# Altium integrated library Actel Fusion.IntLib: 336 symbols (part 66 of 69)
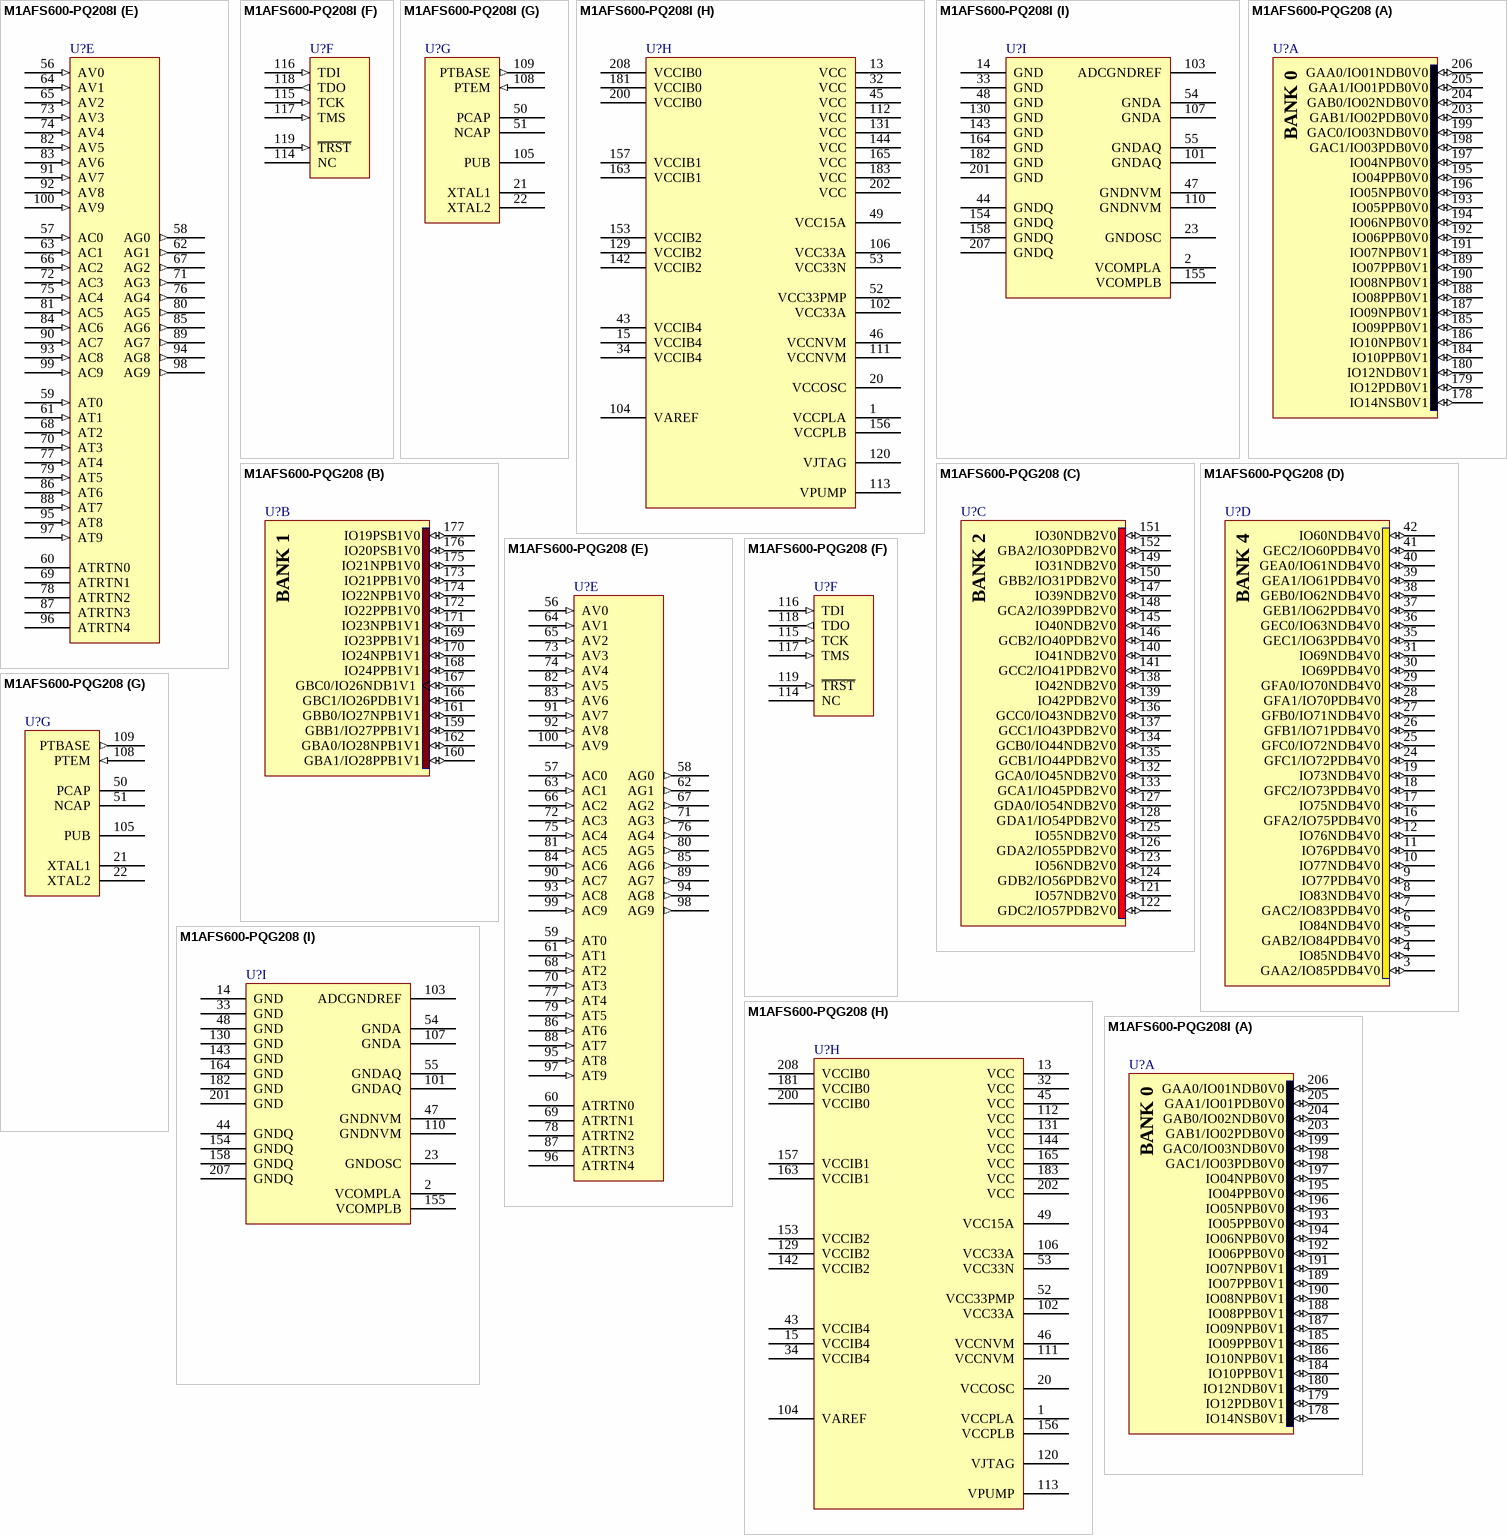
[diagram p337: symbols M1AFS600-PQ208I to M1AFS600-PQG208I]

## M1AFS600-PQ208I
designator U?
ARM-Enabled 3.3V Fusion Mixed Signal Flash FPGA, 600,000 System Gates, 208-Pin PQFP, Industrial Grade; DatasheetVersion: v2.0, Jul-2008; PackageVersion: ver11.2, Nov-2009; PackageReference: PQ208; PackageDescription: 208-Pin Plastic Quad Flat Pack (PQ208); Code_JEDEC: MS-029-FA-1; ComponentLink1Description: Manufacturer URL; ComponentLink1URL: http://www.actel.com/; ComponentLink2Description: Fusion Datasheet; ComponentLink2URL: http://www.actel.com/documents/Fusion_DS.pdf; ComponentLink3Description: Package Mechanical Drawings; ComponentLink3URL: http://www.actel.com/documents/PckgMechDrwngs.pdf; ComponentLink4Description: Fusion Documents; ComponentLink4URL: http://www.actel.com/products/fusion/docs.aspx
footprint PQ208_N (Shrink QFP, 208-Leads, Body 28x28mm, Pitch 0.5mm, IPC Medium Density)
footprint PQ208_L (Shrink QFP, 208-Leads, Body 28x28mm, Pitch 0.5mm, IPC High Density)
footprint PQ208_M (Shrink QFP, 208-Leads, Body 28x28mm, Pitch 0.5mm, IPC Low Density)
part A pins: 178 IO14NSB0V1 (io), 179 IO12PDB0V1 (io), 180 IO12NDB0V1 (io), 184 IO10PPB0V1 (io), 185 IO09PPB0V1 (io), 186 IO10NPB0V1 (io), 187 IO09NPB0V1 (io), 188 IO08PPB0V1 (io), 189 IO07PPB0V1 (io), 190 IO08NPB0V1 (io), 191 IO07NPB0V1 (io), 192 IO06PPB0V0 (io), 193 IO05PPB0V0 (io), 194 IO06NPB0V0 (io), 195 IO04PPB0V0 (io), 196 IO05NPB0V0 (io), 197 IO04NPB0V0 (io), 198 GAC1/IO03PDB0V0 (io), 199 GAC0/IO03NDB0V0 (io), 203 GAB1/IO02PDB0V0 (io), 204 GAB0/IO02NDB0V0 (io), 205 GAA1/IO01PDB0V0 (io), 206 GAA0/IO01NDB0V0 (io)
part B pins: 159 GBB1/IO27PPB1V1 (io), 160 GBA1/IO28PPB1V1 (io), 161 GBB0/IO27NPB1V1 (io), 162 GBA0/IO28NPB1V1 (io), 166 GBC1/IO26PDB1V1 (io), 167 GBC0/IO26NDB1V1 (io), 168 IO24PPB1V1 (io), 169 IO23PPB1V1 (io), 170 IO24NPB1V1 (io), 171 IO23NPB1V1 (io), 172 IO22PPB1V0 (io), 173 IO21PPB1V0 (io), 174 IO22NPB1V0 (io), 175 IO21NPB1V0 (io), 176 IO20PSB1V0 (io), 177 IO19PSB1V0 (io)
part C pins: 121 IO57NDB2V0 (io), 122 GDC2/IO57PDB2V0 (io), 123 IO56NDB2V0 (io), 124 GDB2/IO56PDB2V0 (io), 125 IO55NDB2V0 (io), 126 GDA2/IO55PDB2V0 (io), 127 GDA0/IO54NDB2V0 (io), 128 GDA1/IO54PDB2V0 (io), 132 GCA0/IO45NDB2V0 (io), 133 GCA1/IO45PDB2V0 (io), 134 GCB0/IO44NDB2V0 (io), 135 GCB1/IO44PDB2V0 (io), 136 GCC0/IO43NDB2V0 (io), 137 GCC1/IO43PDB2V0 (io), 138 IO42NDB2V0 (io), 139 IO42PDB2V0 (io), 140 IO41NDB2V0 (io), 141 GCC2/IO41PDB2V0 (io), 145 IO40NDB2V0 (io), 146 GCB2/IO40PDB2V0 (io), 147 IO39NDB2V0 (io), 148 GCA2/IO39PDB2V0 (io), 149 IO31NDB2V0 (io), 150 GBB2/IO31PDB2V0 (io), 151 IO30NDB2V0 (io), 152 GBA2/IO30PDB2V0 (io)
part D pins: 3 GAA2/IO85PDB4V0 (io), 4 IO85NDB4V0 (io), 5 GAB2/IO84PDB4V0 (io), 6 IO84NDB4V0 (io), 7 GAC2/IO83PDB4V0 (io), 8 IO83NDB4V0 (io), 9 IO77PDB4V0 (io), 10 IO77NDB4V0 (io), 11 IO76PDB4V0 (io), 12 IO76NDB4V0 (io), 16 GFA2/IO75PDB4V0 (io), 17 IO75NDB4V0 (io), 18 GFC2/IO73PDB4V0 (io), 19 IO73NDB4V0 (io), 24 GFC1/IO72PDB4V0 (io), 25 GFC0/IO72NDB4V0 (io), 26 GFB1/IO71PDB4V0 (io), 27 GFB0/IO71NDB4V0 (io), 28 GFA1/IO70PDB4V0 (io), 29 GFA0/IO70NDB4V0 (io), 30 IO69PDB4V0 (io), 31 IO69NDB4V0 (io), 35 GEC1/IO63PDB4V0 (io), 36 GEC0/IO63NDB4V0 (io), 37 GEB1/IO62PDB4V0 (io), 38 GEB0/IO62NDB4V0 (io), 39 GEA1/IO61PDB4V0 (io), 40 GEA0/IO61NDB4V0 (io), 41 GEC2/IO60PDB4V0 (io), 42 IO60NDB4V0 (io)
part E pins: 56 AV0 (in) "Analog voltage pad 0.", 57 AC0 (in) "Analog current pad 0.", 58 AG0 (out) "Analog gate driver pad 0.", 59 AT0 (in) "Analog temperature pad 0.", 60 ATRTN0 "Temperature monitor return 0.", 61 AT1 (in) "Analog temperature pad 1.", 62 AG1 (out) "Analog gate driver pad 1.", 63 AC1 (in) "Analog current pad 1.", 64 AV1 (in) "Analog voltage pad 1.", 65 AV2 (in) "Analog voltage pad 2.", 66 AC2 (in) "Analog current pad 2.", 67 AG2 (out) "Analog gate driver pad 2.", 68 AT2 (in) "Analog temperature pad 2.", 69 ATRTN1 "Temperature monitor return 1.", 70 AT3 (in) "Analog temperature pad 3.", 71 AG3 (out) "Analog gate driver pad 3.", 72 AC3 (in) "Analog current pad 3.", 73 AV3 (in) "Analog voltage pad 3.", 74 AV4 (in) "Analog voltage pad 4.", 75 AC4 (in) "Analog current pad 4.", 76 AG4 (out) "Analog gate driver pad 4.", 77 AT4 (in) "Analog temperature pad 4.", 78 ATRTN2 "Temperature monitor return 2.", 79 AT5 (in) "Analog temperature pad 5.", 80 AG5 (out) "Analog gate driver pad 5.", 81 AC5 (in) "Analog current pad 5.", 82 AV5 (in) "Analog voltage pad 5.", 83 AV6 (in) "Analog voltage pad 6.", 84 AC6 (in) "Analog current pad 6.", 85 AG6 (out) "Analog gate driver pad 6.", 86 AT6 (in) "Analog temperature pad 6.", 87 ATRTN3 "Temperature monitor return 3.", 88 AT7 (in) "Analog temperature pad 7.", 89 AG7 (out) "Analog gate driver pad 7.", 90 AC7 (in) "Analog current pad 7.", 91 AV7 (in) "Analog voltage pad 7.", 92 AV8 (in) "Analog voltage pad 8.", 93 AC8 (in) "Analog current pad 8.", 94 AG8 (out) "Analog gate driver pad 8.", 95 AT8 (in) "Analog temperature pad 8.", 96 ATRTN4 "Temperature monitor return 4.", 97 AT9 (in) "Analog temperature pad 9.", 98 AG9 (out) "Analog gate driver pad 9.", 99 AC9 (in) "Analog current pad 9.", 100 AV9 (in) "Analog voltage pad 9."
part F pins: 114 NC, 115 TCK (in), 116 TDI (in), 117 TMS (in), 118 TDO (out), 119 ~{TRST} (in)
part G pins: 21 XTAL1 "Input to crystal oscillator - If using external RC network or clock input, XTAL1 should be used and XTAL2 left unconnected.", 22 XTAL2 "Input to crystal oscillator - If using external RC network or clock input, XTAL1 should be used and XTAL2 left unconnected.", 50 PCAP "POSITIVE CAPACITOR - where the positive terminal of the charge pump capacitor is connected.", 51 NCAP "NEGATIVE CAPACITOR - where the negative terminal of the charge pump capacitor is connected.", 105 PUB "Power up bar - for the external momentary switch which turns on the 1.5V regulator.", 108 PTEM (in) "PASS TRANSISTOR EMITTER - The feedback input of the voltage regulator.", 109 PTBASE (out) "PASS TRANSISTOR BASE - The control signal of the voltage regulator."
part H pins: 1 VCCPLA (power), 13 VCC (power), 15 VCCIB4 (power), 20 VCCOSC (power), 32 VCC (power), 34 VCCIB4 (power), 43 VCCIB4 (power) "Quiet supply voltage to the input buffers of bank 4.", 45 VCC (power), 46 VCCNVM (power) "1.5V power supply used by the Fusion device's Flash memory block module(s).", 49 VCC15A (power), 52 VCC33PMP (power) "3.3V clean analog power supply input for use by the analog charge pump.", 53 VCC33N (power) "-3.3V output from the voltage converter. A 2.2µF capacitor must be connected from this pin to ground.", 102 VCC33A (power) "Analog power pin for the analog power supply low pass filter. An external 1µF capacitor should be connected between this pin and ground.", 104 VAREF (power) "Analog reference voltage to be used by analog to digital converter.", 106 VCC33A (power), 111 VCCNVM (power) "1.5V power supply used by the Fusion device's Flash memory block module(s).", 112 VCC (power), 113 VPUMP (power), 120 VJTAG (power), 129 VCCIB2 (power), 131 VCC (power), 142 VCCIB2 (power), 144 VCC (power), 153 VCCIB2 (power) "Quiet supply voltage to the input buffers of bank 2.", 156 VCCPLB (power), 157 VCCIB1 (power) "Quiet supply voltage to the input buffers of bank 1.", 163 VCCIB1 (power), 165 VCC (power), 181 VCCIB0 (power), 183 VCC (power), 200 VCCIB0 (power), 202 VCC (power), 208 VCCIB0 (power) "Quiet supply voltage to the input buffers of bank 0."
part I pins: 2 VCOMPLA (power), 14 GND (power), 23 GNDOSC (power) "Oscillator ground.", 33 GND (power), 44 GNDQ (power), 47 GNDNVM (power) "Flash memory ground.", 48 GND (power), 54 GNDA (power), 55 GNDAQ (power), 101 GNDAQ (power), 103 ADCGNDREF (power) "Analog ground reference used by the ADC.", 107 GNDA (power), 110 GNDNVM (power) "Flash memory ground.", 130 GND (power), 143 GND (power), 154 GNDQ (power), 155 VCOMPLB (power), 158 GNDQ (power), 164 GND (power), 182 GND (power), 201 GND (power), 207 GNDQ (power)
part A text: BANK 0
part B text: BANK 1
part C text: BANK 2
part D text: BANK 4

## M1AFS600-PQG208
designator U?
ARM-Enabled 3.3V Fusion Mixed Signal Flash FPGA, 600,000 System Gates, 208-Pin PQFP, Commercial Grade, Pb-Free; DatasheetVersion: v2.0, Jul-2008; PackageVersion: ver11.2, Nov-2009; PackageReference: PQ208; PackageDescription: 208-Pin Plastic Quad Flat Pack (PQ208); Code_JEDEC: MS-029-FA-1; ComponentLink1Description: Manufacturer URL; ComponentLink1URL: http://www.actel.com/; ComponentLink2Description: Fusion Datasheet; ComponentLink2URL: http://www.actel.com/documents/Fusion_DS.pdf; ComponentLink3Description: Package Mechanical Drawings; ComponentLink3URL: http://www.actel.com/documents/PckgMechDrwngs.pdf; ComponentLink4Description: Fusion Documents; ComponentLink4URL: http://www.actel.com/products/fusion/docs.aspx
footprint PQ208_N (Shrink QFP, 208-Leads, Body 28x28mm, Pitch 0.5mm, IPC Medium Density)
footprint PQ208_L (Shrink QFP, 208-Leads, Body 28x28mm, Pitch 0.5mm, IPC High Density)
footprint PQ208_M (Shrink QFP, 208-Leads, Body 28x28mm, Pitch 0.5mm, IPC Low Density)
part A pins: 178 IO14NSB0V1 (io), 179 IO12PDB0V1 (io), 180 IO12NDB0V1 (io), 184 IO10PPB0V1 (io), 185 IO09PPB0V1 (io), 186 IO10NPB0V1 (io), 187 IO09NPB0V1 (io), 188 IO08PPB0V1 (io), 189 IO07PPB0V1 (io), 190 IO08NPB0V1 (io), 191 IO07NPB0V1 (io), 192 IO06PPB0V0 (io), 193 IO05PPB0V0 (io), 194 IO06NPB0V0 (io), 195 IO04PPB0V0 (io), 196 IO05NPB0V0 (io), 197 IO04NPB0V0 (io), 198 GAC1/IO03PDB0V0 (io), 199 GAC0/IO03NDB0V0 (io), 203 GAB1/IO02PDB0V0 (io), 204 GAB0/IO02NDB0V0 (io), 205 GAA1/IO01PDB0V0 (io), 206 GAA0/IO01NDB0V0 (io)
part B pins: 159 GBB1/IO27PPB1V1 (io), 160 GBA1/IO28PPB1V1 (io), 161 GBB0/IO27NPB1V1 (io), 162 GBA0/IO28NPB1V1 (io), 166 GBC1/IO26PDB1V1 (io), 167 GBC0/IO26NDB1V1 (io), 168 IO24PPB1V1 (io), 169 IO23PPB1V1 (io), 170 IO24NPB1V1 (io), 171 IO23NPB1V1 (io), 172 IO22PPB1V0 (io), 173 IO21PPB1V0 (io), 174 IO22NPB1V0 (io), 175 IO21NPB1V0 (io), 176 IO20PSB1V0 (io), 177 IO19PSB1V0 (io)
part C pins: 121 IO57NDB2V0 (io), 122 GDC2/IO57PDB2V0 (io), 123 IO56NDB2V0 (io), 124 GDB2/IO56PDB2V0 (io), 125 IO55NDB2V0 (io), 126 GDA2/IO55PDB2V0 (io), 127 GDA0/IO54NDB2V0 (io), 128 GDA1/IO54PDB2V0 (io), 132 GCA0/IO45NDB2V0 (io), 133 GCA1/IO45PDB2V0 (io), 134 GCB0/IO44NDB2V0 (io), 135 GCB1/IO44PDB2V0 (io), 136 GCC0/IO43NDB2V0 (io), 137 GCC1/IO43PDB2V0 (io), 138 IO42NDB2V0 (io), 139 IO42PDB2V0 (io), 140 IO41NDB2V0 (io), 141 GCC2/IO41PDB2V0 (io), 145 IO40NDB2V0 (io), 146 GCB2/IO40PDB2V0 (io), 147 IO39NDB2V0 (io), 148 GCA2/IO39PDB2V0 (io), 149 IO31NDB2V0 (io), 150 GBB2/IO31PDB2V0 (io), 151 IO30NDB2V0 (io), 152 GBA2/IO30PDB2V0 (io)
part D pins: 3 GAA2/IO85PDB4V0 (io), 4 IO85NDB4V0 (io), 5 GAB2/IO84PDB4V0 (io), 6 IO84NDB4V0 (io), 7 GAC2/IO83PDB4V0 (io), 8 IO83NDB4V0 (io), 9 IO77PDB4V0 (io), 10 IO77NDB4V0 (io), 11 IO76PDB4V0 (io), 12 IO76NDB4V0 (io), 16 GFA2/IO75PDB4V0 (io), 17 IO75NDB4V0 (io), 18 GFC2/IO73PDB4V0 (io), 19 IO73NDB4V0 (io), 24 GFC1/IO72PDB4V0 (io), 25 GFC0/IO72NDB4V0 (io), 26 GFB1/IO71PDB4V0 (io), 27 GFB0/IO71NDB4V0 (io), 28 GFA1/IO70PDB4V0 (io), 29 GFA0/IO70NDB4V0 (io), 30 IO69PDB4V0 (io), 31 IO69NDB4V0 (io), 35 GEC1/IO63PDB4V0 (io), 36 GEC0/IO63NDB4V0 (io), 37 GEB1/IO62PDB4V0 (io), 38 GEB0/IO62NDB4V0 (io), 39 GEA1/IO61PDB4V0 (io), 40 GEA0/IO61NDB4V0 (io), 41 GEC2/IO60PDB4V0 (io), 42 IO60NDB4V0 (io)
part E pins: 56 AV0 (in) "Analog voltage pad 0.", 57 AC0 (in) "Analog current pad 0.", 58 AG0 (out) "Analog gate driver pad 0.", 59 AT0 (in) "Analog temperature pad 0.", 60 ATRTN0 "Temperature monitor return 0.", 61 AT1 (in) "Analog temperature pad 1.", 62 AG1 (out) "Analog gate driver pad 1.", 63 AC1 (in) "Analog current pad 1.", 64 AV1 (in) "Analog voltage pad 1.", 65 AV2 (in) "Analog voltage pad 2.", 66 AC2 (in) "Analog current pad 2.", 67 AG2 (out) "Analog gate driver pad 2.", 68 AT2 (in) "Analog temperature pad 2.", 69 ATRTN1 "Temperature monitor return 1.", 70 AT3 (in) "Analog temperature pad 3.", 71 AG3 (out) "Analog gate driver pad 3.", 72 AC3 (in) "Analog current pad 3.", 73 AV3 (in) "Analog voltage pad 3.", 74 AV4 (in) "Analog voltage pad 4.", 75 AC4 (in) "Analog current pad 4.", 76 AG4 (out) "Analog gate driver pad 4.", 77 AT4 (in) "Analog temperature pad 4.", 78 ATRTN2 "Temperature monitor return 2.", 79 AT5 (in) "Analog temperature pad 5.", 80 AG5 (out) "Analog gate driver pad 5.", 81 AC5 (in) "Analog current pad 5.", 82 AV5 (in) "Analog voltage pad 5.", 83 AV6 (in) "Analog voltage pad 6.", 84 AC6 (in) "Analog current pad 6.", 85 AG6 (out) "Analog gate driver pad 6.", 86 AT6 (in) "Analog temperature pad 6.", 87 ATRTN3 "Temperature monitor return 3.", 88 AT7 (in) "Analog temperature pad 7.", 89 AG7 (out) "Analog gate driver pad 7.", 90 AC7 (in) "Analog current pad 7.", 91 AV7 (in) "Analog voltage pad 7.", 92 AV8 (in) "Analog voltage pad 8.", 93 AC8 (in) "Analog current pad 8.", 94 AG8 (out) "Analog gate driver pad 8.", 95 AT8 (in) "Analog temperature pad 8.", 96 ATRTN4 "Temperature monitor return 4.", 97 AT9 (in) "Analog temperature pad 9.", 98 AG9 (out) "Analog gate driver pad 9.", 99 AC9 (in) "Analog current pad 9.", 100 AV9 (in) "Analog voltage pad 9."
part F pins: 114 NC, 115 TCK (in), 116 TDI (in), 117 TMS (in), 118 TDO (out), 119 ~{TRST} (in)
part G pins: 21 XTAL1 "Input to crystal oscillator - If using external RC network or clock input, XTAL1 should be used and XTAL2 left unconnected.", 22 XTAL2 "Input to crystal oscillator - If using external RC network or clock input, XTAL1 should be used and XTAL2 left unconnected.", 50 PCAP "POSITIVE CAPACITOR - where the positive terminal of the charge pump capacitor is connected.", 51 NCAP "NEGATIVE CAPACITOR - where the negative terminal of the charge pump capacitor is connected.", 105 PUB "Power up bar - for the external momentary switch which turns on the 1.5V regulator.", 108 PTEM (in) "PASS TRANSISTOR EMITTER - The feedback input of the voltage regulator.", 109 PTBASE (out) "PASS TRANSISTOR BASE - The control signal of the voltage regulator."
part H pins: 1 VCCPLA (power), 13 VCC (power), 15 VCCIB4 (power), 20 VCCOSC (power), 32 VCC (power), 34 VCCIB4 (power), 43 VCCIB4 (power) "Quiet supply voltage to the input buffers of bank 4.", 45 VCC (power), 46 VCCNVM (power) "1.5V power supply used by the Fusion device's Flash memory block module(s).", 49 VCC15A (power), 52 VCC33PMP (power) "3.3V clean analog power supply input for use by the analog charge pump.", 53 VCC33N (power) "-3.3V output from the voltage converter. A 2.2µF capacitor must be connected from this pin to ground.", 102 VCC33A (power) "Analog power pin for the analog power supply low pass filter. An external 1µF capacitor should be connected between this pin and ground.", 104 VAREF (power) "Analog reference voltage to be used by analog to digital converter.", 106 VCC33A (power), 111 VCCNVM (power) "1.5V power supply used by the Fusion device's Flash memory block module(s).", 112 VCC (power), 113 VPUMP (power), 120 VJTAG (power), 129 VCCIB2 (power), 131 VCC (power), 142 VCCIB2 (power), 144 VCC (power), 153 VCCIB2 (power) "Quiet supply voltage to the input buffers of bank 2.", 156 VCCPLB (power), 157 VCCIB1 (power) "Quiet supply voltage to the input buffers of bank 1.", 163 VCCIB1 (power), 165 VCC (power), 181 VCCIB0 (power), 183 VCC (power), 200 VCCIB0 (power), 202 VCC (power), 208 VCCIB0 (power) "Quiet supply voltage to the input buffers of bank 0."
part I pins: 2 VCOMPLA (power), 14 GND (power), 23 GNDOSC (power) "Oscillator ground.", 33 GND (power), 44 GNDQ (power), 47 GNDNVM (power) "Flash memory ground.", 48 GND (power), 54 GNDA (power), 55 GNDAQ (power), 101 GNDAQ (power), 103 ADCGNDREF (power) "Analog ground reference used by the ADC.", 107 GNDA (power), 110 GNDNVM (power) "Flash memory ground.", 130 GND (power), 143 GND (power), 154 GNDQ (power), 155 VCOMPLB (power), 158 GNDQ (power), 164 GND (power), 182 GND (power), 201 GND (power), 207 GNDQ (power)
part A text: BANK 0
part B text: BANK 1
part C text: BANK 2
part D text: BANK 4

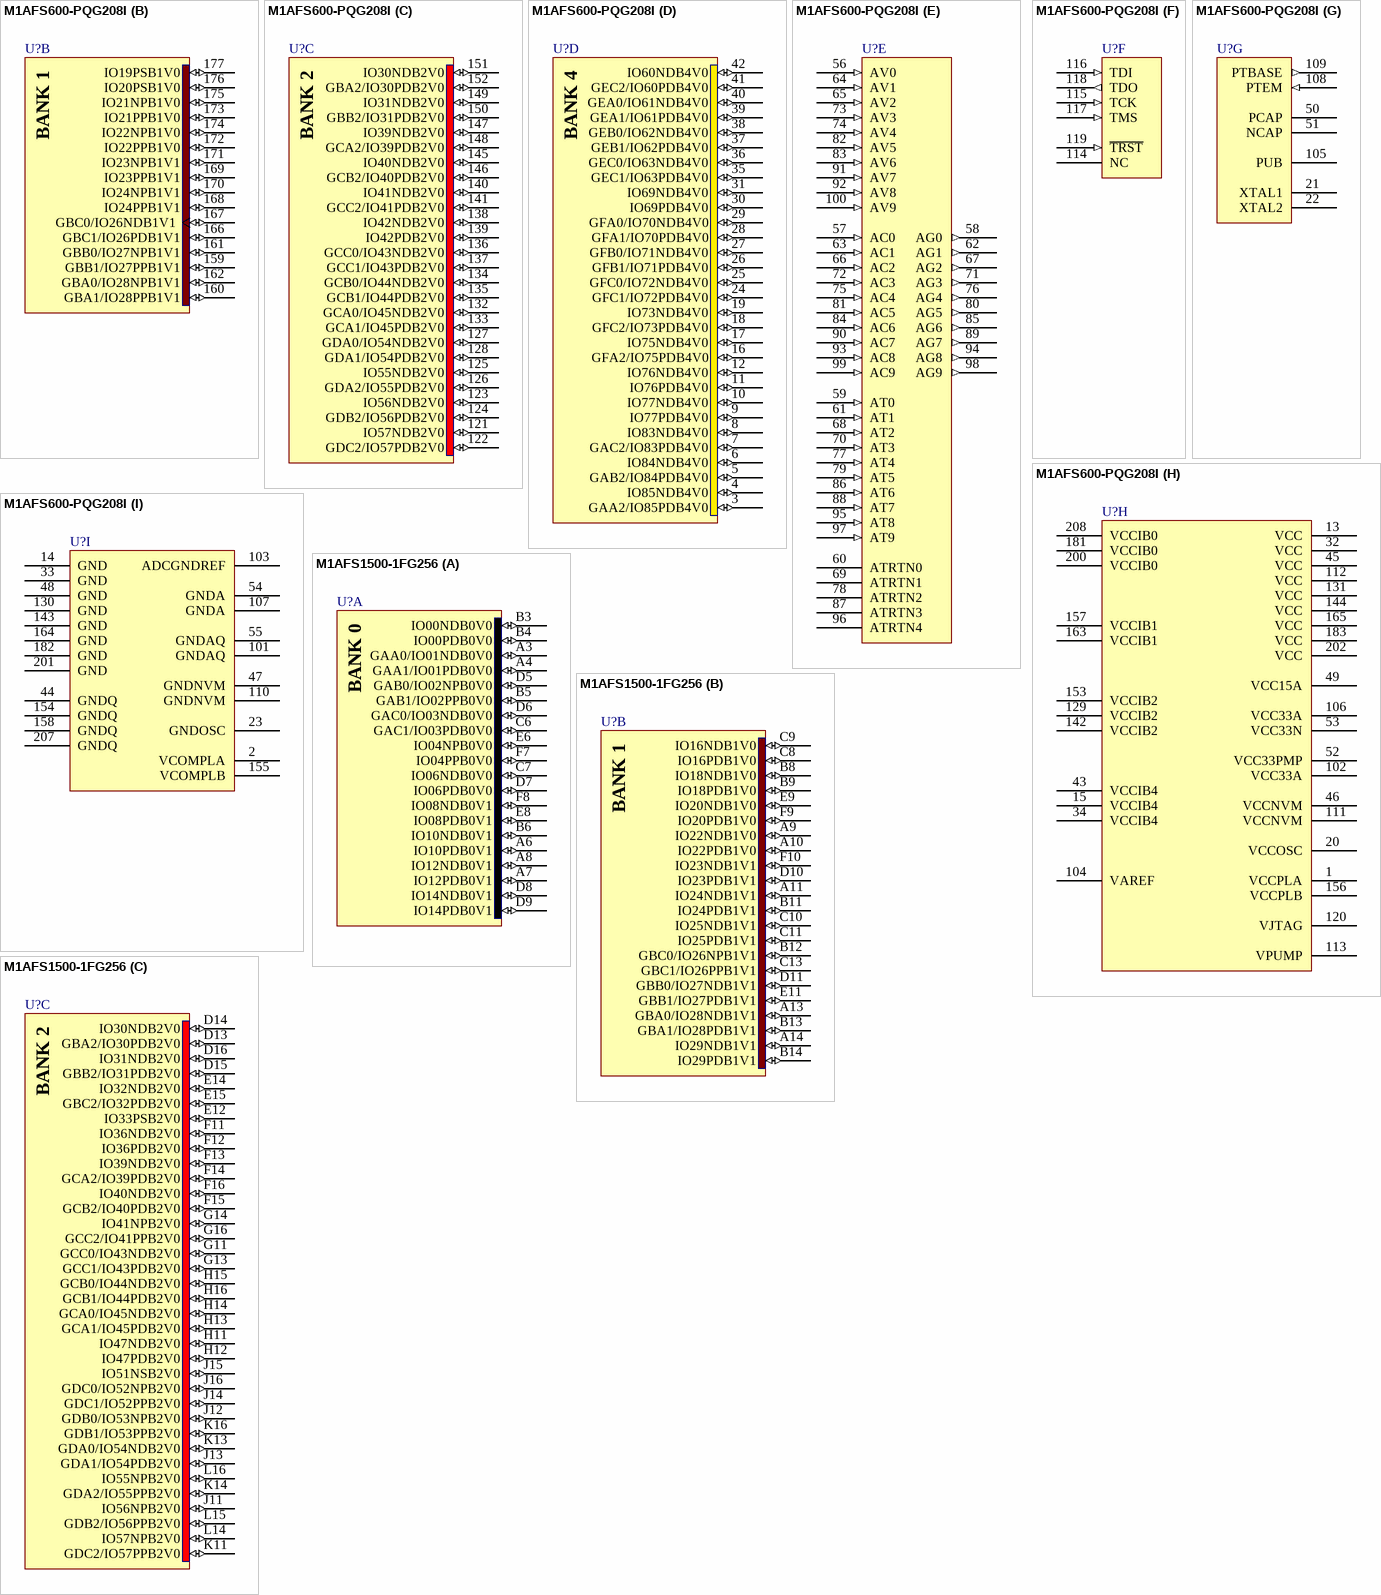
[diagram p205: symbols M1AFS600-PQG208I to M1AFS1500-1FG256]

## M1AFS600-PQG208I
designator U?
ARM-Enabled 3.3V Fusion Mixed Signal Flash FPGA, 600,000 System Gates, 208-Pin PQFP, Industrial Grade, Pb-Free; DatasheetVersion: v2.0, Jul-2008; PackageVersion: ver11.2, Nov-2009; PackageReference: PQ208; PackageDescription: 208-Pin Plastic Quad Flat Pack (PQ208); Code_JEDEC: MS-029-FA-1; ComponentLink1Description: Manufacturer URL; ComponentLink1URL: http://www.actel.com/; ComponentLink2Description: Fusion Datasheet; ComponentLink2URL: http://www.actel.com/documents/Fusion_DS.pdf; ComponentLink3Description: Package Mechanical Drawings; ComponentLink3URL: http://www.actel.com/documents/PckgMechDrwngs.pdf; ComponentLink4Description: Fusion Documents; ComponentLink4URL: http://www.actel.com/products/fusion/docs.aspx
footprint PQ208_N (Shrink QFP, 208-Leads, Body 28x28mm, Pitch 0.5mm, IPC Medium Density)
footprint PQ208_L (Shrink QFP, 208-Leads, Body 28x28mm, Pitch 0.5mm, IPC High Density)
footprint PQ208_M (Shrink QFP, 208-Leads, Body 28x28mm, Pitch 0.5mm, IPC Low Density)
part A pins: 178 IO14NSB0V1 (io), 179 IO12PDB0V1 (io), 180 IO12NDB0V1 (io), 184 IO10PPB0V1 (io), 185 IO09PPB0V1 (io), 186 IO10NPB0V1 (io), 187 IO09NPB0V1 (io), 188 IO08PPB0V1 (io), 189 IO07PPB0V1 (io), 190 IO08NPB0V1 (io), 191 IO07NPB0V1 (io), 192 IO06PPB0V0 (io), 193 IO05PPB0V0 (io), 194 IO06NPB0V0 (io), 195 IO04PPB0V0 (io), 196 IO05NPB0V0 (io), 197 IO04NPB0V0 (io), 198 GAC1/IO03PDB0V0 (io), 199 GAC0/IO03NDB0V0 (io), 203 GAB1/IO02PDB0V0 (io), 204 GAB0/IO02NDB0V0 (io), 205 GAA1/IO01PDB0V0 (io), 206 GAA0/IO01NDB0V0 (io)
part B pins: 159 GBB1/IO27PPB1V1 (io), 160 GBA1/IO28PPB1V1 (io), 161 GBB0/IO27NPB1V1 (io), 162 GBA0/IO28NPB1V1 (io), 166 GBC1/IO26PDB1V1 (io), 167 GBC0/IO26NDB1V1 (io), 168 IO24PPB1V1 (io), 169 IO23PPB1V1 (io), 170 IO24NPB1V1 (io), 171 IO23NPB1V1 (io), 172 IO22PPB1V0 (io), 173 IO21PPB1V0 (io), 174 IO22NPB1V0 (io), 175 IO21NPB1V0 (io), 176 IO20PSB1V0 (io), 177 IO19PSB1V0 (io)
part C pins: 121 IO57NDB2V0 (io), 122 GDC2/IO57PDB2V0 (io), 123 IO56NDB2V0 (io), 124 GDB2/IO56PDB2V0 (io), 125 IO55NDB2V0 (io), 126 GDA2/IO55PDB2V0 (io), 127 GDA0/IO54NDB2V0 (io), 128 GDA1/IO54PDB2V0 (io), 132 GCA0/IO45NDB2V0 (io), 133 GCA1/IO45PDB2V0 (io), 134 GCB0/IO44NDB2V0 (io), 135 GCB1/IO44PDB2V0 (io), 136 GCC0/IO43NDB2V0 (io), 137 GCC1/IO43PDB2V0 (io), 138 IO42NDB2V0 (io), 139 IO42PDB2V0 (io), 140 IO41NDB2V0 (io), 141 GCC2/IO41PDB2V0 (io), 145 IO40NDB2V0 (io), 146 GCB2/IO40PDB2V0 (io), 147 IO39NDB2V0 (io), 148 GCA2/IO39PDB2V0 (io), 149 IO31NDB2V0 (io), 150 GBB2/IO31PDB2V0 (io), 151 IO30NDB2V0 (io), 152 GBA2/IO30PDB2V0 (io)
part D pins: 3 GAA2/IO85PDB4V0 (io), 4 IO85NDB4V0 (io), 5 GAB2/IO84PDB4V0 (io), 6 IO84NDB4V0 (io), 7 GAC2/IO83PDB4V0 (io), 8 IO83NDB4V0 (io), 9 IO77PDB4V0 (io), 10 IO77NDB4V0 (io), 11 IO76PDB4V0 (io), 12 IO76NDB4V0 (io), 16 GFA2/IO75PDB4V0 (io), 17 IO75NDB4V0 (io), 18 GFC2/IO73PDB4V0 (io), 19 IO73NDB4V0 (io), 24 GFC1/IO72PDB4V0 (io), 25 GFC0/IO72NDB4V0 (io), 26 GFB1/IO71PDB4V0 (io), 27 GFB0/IO71NDB4V0 (io), 28 GFA1/IO70PDB4V0 (io), 29 GFA0/IO70NDB4V0 (io), 30 IO69PDB4V0 (io), 31 IO69NDB4V0 (io), 35 GEC1/IO63PDB4V0 (io), 36 GEC0/IO63NDB4V0 (io), 37 GEB1/IO62PDB4V0 (io), 38 GEB0/IO62NDB4V0 (io), 39 GEA1/IO61PDB4V0 (io), 40 GEA0/IO61NDB4V0 (io), 41 GEC2/IO60PDB4V0 (io), 42 IO60NDB4V0 (io)
part E pins: 56 AV0 (in) "Analog voltage pad 0.", 57 AC0 (in) "Analog current pad 0.", 58 AG0 (out) "Analog gate driver pad 0.", 59 AT0 (in) "Analog temperature pad 0.", 60 ATRTN0 "Temperature monitor return 0.", 61 AT1 (in) "Analog temperature pad 1.", 62 AG1 (out) "Analog gate driver pad 1.", 63 AC1 (in) "Analog current pad 1.", 64 AV1 (in) "Analog voltage pad 1.", 65 AV2 (in) "Analog voltage pad 2.", 66 AC2 (in) "Analog current pad 2.", 67 AG2 (out) "Analog gate driver pad 2.", 68 AT2 (in) "Analog temperature pad 2.", 69 ATRTN1 "Temperature monitor return 1.", 70 AT3 (in) "Analog temperature pad 3.", 71 AG3 (out) "Analog gate driver pad 3.", 72 AC3 (in) "Analog current pad 3.", 73 AV3 (in) "Analog voltage pad 3.", 74 AV4 (in) "Analog voltage pad 4.", 75 AC4 (in) "Analog current pad 4.", 76 AG4 (out) "Analog gate driver pad 4.", 77 AT4 (in) "Analog temperature pad 4.", 78 ATRTN2 "Temperature monitor return 2.", 79 AT5 (in) "Analog temperature pad 5.", 80 AG5 (out) "Analog gate driver pad 5.", 81 AC5 (in) "Analog current pad 5.", 82 AV5 (in) "Analog voltage pad 5.", 83 AV6 (in) "Analog voltage pad 6.", 84 AC6 (in) "Analog current pad 6.", 85 AG6 (out) "Analog gate driver pad 6.", 86 AT6 (in) "Analog temperature pad 6.", 87 ATRTN3 "Temperature monitor return 3.", 88 AT7 (in) "Analog temperature pad 7.", 89 AG7 (out) "Analog gate driver pad 7.", 90 AC7 (in) "Analog current pad 7.", 91 AV7 (in) "Analog voltage pad 7.", 92 AV8 (in) "Analog voltage pad 8.", 93 AC8 (in) "Analog current pad 8.", 94 AG8 (out) "Analog gate driver pad 8.", 95 AT8 (in) "Analog temperature pad 8.", 96 ATRTN4 "Temperature monitor return 4.", 97 AT9 (in) "Analog temperature pad 9.", 98 AG9 (out) "Analog gate driver pad 9.", 99 AC9 (in) "Analog current pad 9.", 100 AV9 (in) "Analog voltage pad 9."
part F pins: 114 NC, 115 TCK (in), 116 TDI (in), 117 TMS (in), 118 TDO (out), 119 ~{TRST} (in)
part G pins: 21 XTAL1 "Input to crystal oscillator - If using external RC network or clock input, XTAL1 should be used and XTAL2 left unconnected.", 22 XTAL2 "Input to crystal oscillator - If using external RC network or clock input, XTAL1 should be used and XTAL2 left unconnected.", 50 PCAP "POSITIVE CAPACITOR - where the positive terminal of the charge pump capacitor is connected.", 51 NCAP "NEGATIVE CAPACITOR - where the negative terminal of the charge pump capacitor is connected.", 105 PUB "Power up bar - for the external momentary switch which turns on the 1.5V regulator.", 108 PTEM (in) "PASS TRANSISTOR EMITTER - The feedback input of the voltage regulator.", 109 PTBASE (out) "PASS TRANSISTOR BASE - The control signal of the voltage regulator."
part H pins: 1 VCCPLA (power), 13 VCC (power), 15 VCCIB4 (power), 20 VCCOSC (power), 32 VCC (power), 34 VCCIB4 (power), 43 VCCIB4 (power) "Quiet supply voltage to the input buffers of bank 4.", 45 VCC (power), 46 VCCNVM (power) "1.5V power supply used by the Fusion device's Flash memory block module(s).", 49 VCC15A (power), 52 VCC33PMP (power) "3.3V clean analog power supply input for use by the analog charge pump.", 53 VCC33N (power) "-3.3V output from the voltage converter. A 2.2µF capacitor must be connected from this pin to ground.", 102 VCC33A (power) "Analog power pin for the analog power supply low pass filter. An external 1µF capacitor should be connected between this pin and ground.", 104 VAREF (power) "Analog reference voltage to be used by analog to digital converter.", 106 VCC33A (power), 111 VCCNVM (power) "1.5V power supply used by the Fusion device's Flash memory block module(s).", 112 VCC (power), 113 VPUMP (power), 120 VJTAG (power), 129 VCCIB2 (power), 131 VCC (power), 142 VCCIB2 (power), 144 VCC (power), 153 VCCIB2 (power) "Quiet supply voltage to the input buffers of bank 2.", 156 VCCPLB (power), 157 VCCIB1 (power) "Quiet supply voltage to the input buffers of bank 1.", 163 VCCIB1 (power), 165 VCC (power), 181 VCCIB0 (power), 183 VCC (power), 200 VCCIB0 (power), 202 VCC (power), 208 VCCIB0 (power) "Quiet supply voltage to the input buffers of bank 0."
part I pins: 2 VCOMPLA (power), 14 GND (power), 23 GNDOSC (power) "Oscillator ground.", 33 GND (power), 44 GNDQ (power), 47 GNDNVM (power) "Flash memory ground.", 48 GND (power), 54 GNDA (power), 55 GNDAQ (power), 101 GNDAQ (power), 103 ADCGNDREF (power) "Analog ground reference used by the ADC.", 107 GNDA (power), 110 GNDNVM (power) "Flash memory ground.", 130 GND (power), 143 GND (power), 154 GNDQ (power), 155 VCOMPLB (power), 158 GNDQ (power), 164 GND (power), 182 GND (power), 201 GND (power), 207 GNDQ (power)
part A text: BANK 0
part B text: BANK 1
part C text: BANK 2
part D text: BANK 4

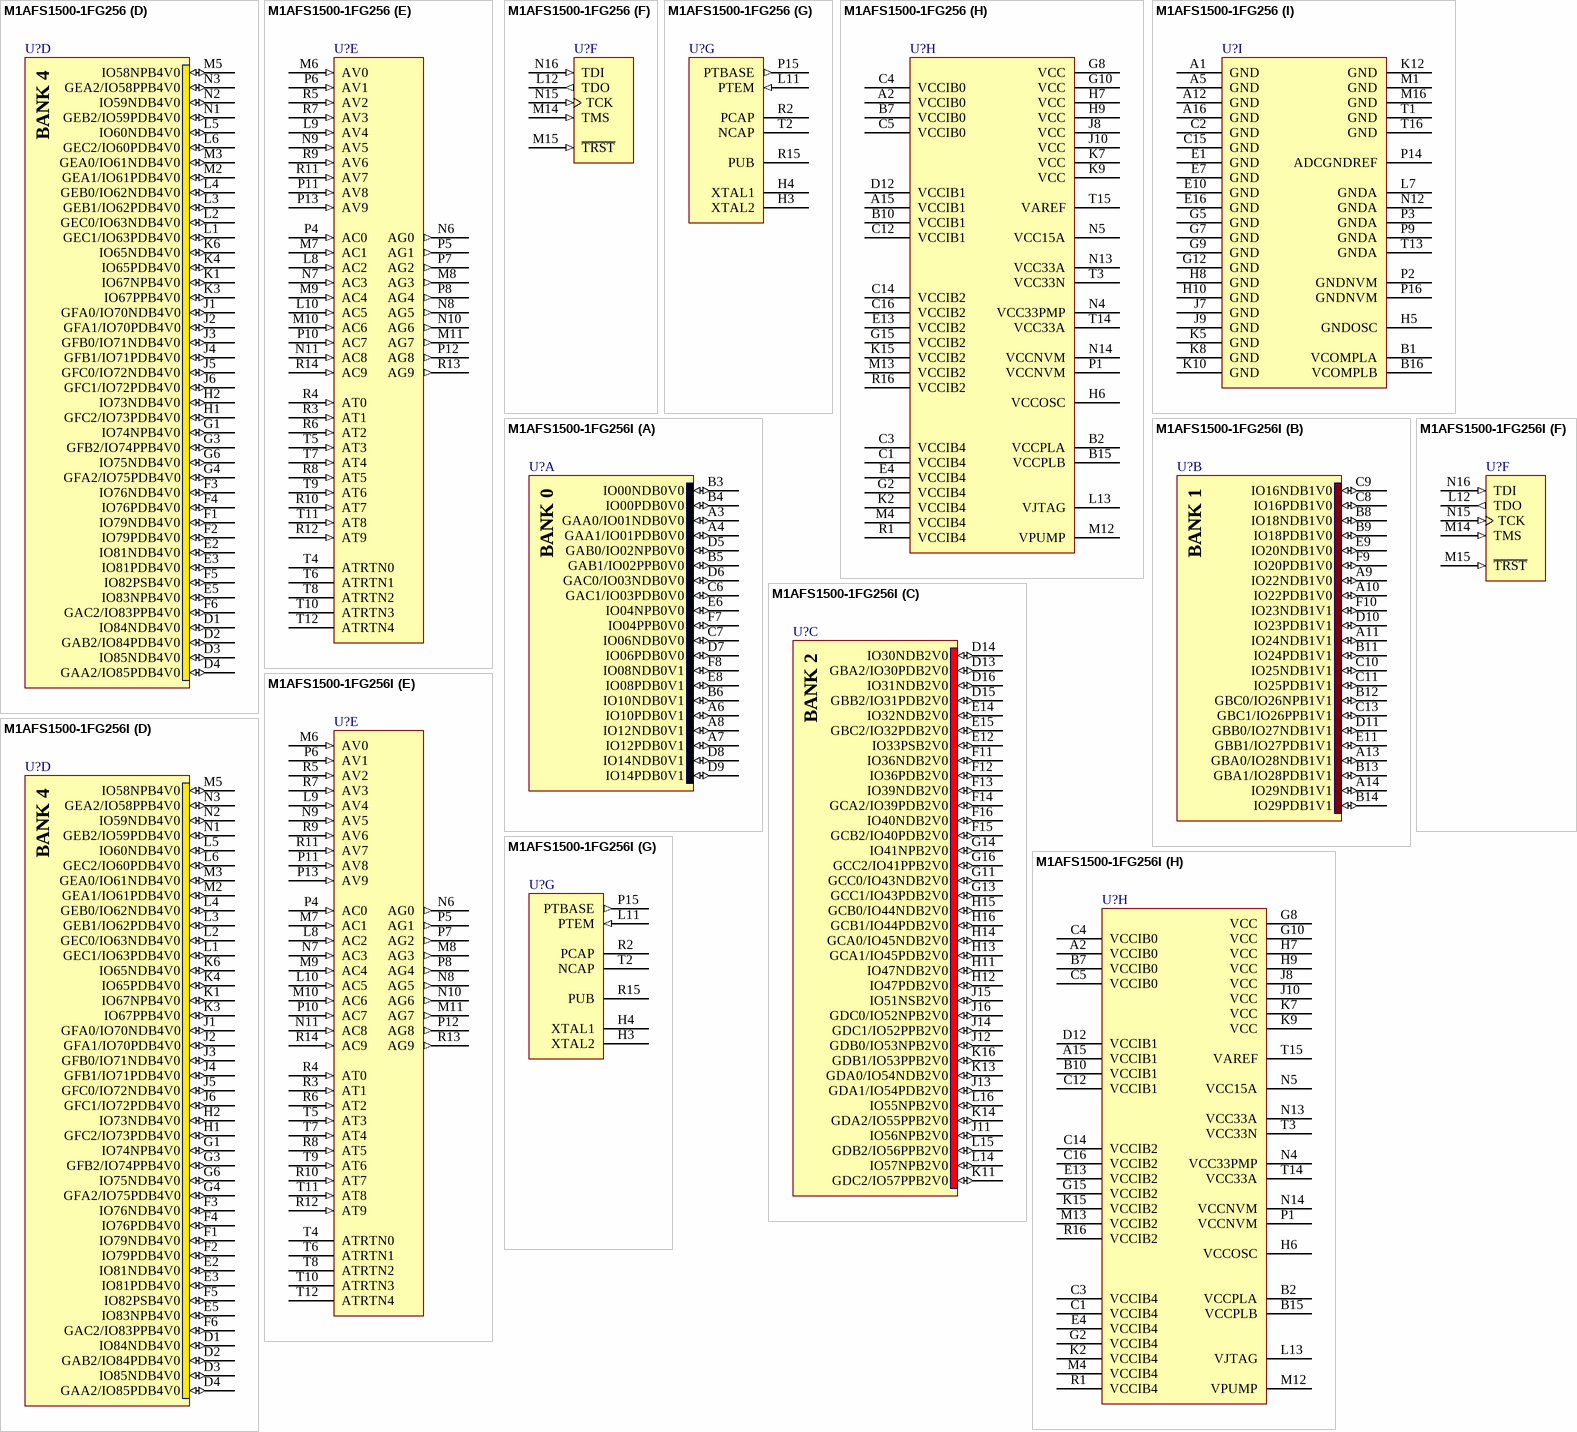
[diagram p206: symbols M1AFS1500-1FG256 to M1AFS1500-1FG256I]

## M1AFS1500-1FG256
designator U?
ARM-Enabled 3.3V Fusion Mixed Signal Flash FPGA, 1.5 Million System Gates, 256-Pin FBGA, 15% Faster Speed Grade, Commercial Grade; DatasheetVersion: v2.0, Jul-2008; PackageVersion: rev39, Aug-2010; PackageReference: FG256; PackageDescription: 256-Ball Fine Pitch Plastic Ball Grid Array 1.00 mm Pitch (FG256); Code_JEDEC: MO-192-DAF-1; ComponentLink1Description: Manufacturer URL; ComponentLink1URL: http://www.actel.com/; ComponentLink2Description: Fusion Datasheet; ComponentLink2URL: http://www.actel.com/documents/Fusion_DS.pdf; ComponentLink3Description: Package Mechanical Drawings; ComponentLink3URL: http://www.actel.com/documents/PckgMechDrwngs.pdf; ComponentLink4Description: Fusion Documents; ComponentLink4URL: http://www.actel.com/products/fusion/docs.aspx
footprint FG256 (BGA, 256-Leads, Body 17x17mm, Pitch 1mm)
part A pins: A3 GAA0/IO01NDB0V0 (io), A4 GAA1/IO01PDB0V0 (io), A6 IO10PDB0V1 (io), A7 IO12PDB0V1 (io), A8 IO12NDB0V1 (io), B3 IO00NDB0V0 (io), B4 IO00PDB0V0 (io), B5 GAB1/IO02PPB0V0 (io), B6 IO10NDB0V1 (io), C6 GAC1/IO03PDB0V0 (io), C7 IO06NDB0V0 (io), D5 GAB0/IO02NPB0V0 (io), D6 GAC0/IO03NDB0V0 (io), D7 IO06PDB0V0 (io), D8 IO14NDB0V1 (io), D9 IO14PDB0V1 (io), E6 IO04NPB0V0 (io), E8 IO08PDB0V1 (io), F7 IO04PPB0V0 (io), F8 IO08NDB0V1 (io)
part B pins: A9 IO22NDB1V0 (io), A10 IO22PDB1V0 (io), A11 IO24NDB1V1 (io), A13 GBA0/IO28NDB1V1 (io), A14 IO29NDB1V1 (io), B8 IO18NDB1V0 (io), B9 IO18PDB1V0 (io), B11 IO24PDB1V1 (io), B12 GBC0/IO26NPB1V1 (io), B13 GBA1/IO28PDB1V1 (io), B14 IO29PDB1V1 (io), C8 IO16PDB1V0 (io), C9 IO16NDB1V0 (io), C10 IO25NDB1V1 (io), C11 IO25PDB1V1 (io), C13 GBC1/IO26PPB1V1 (io), D10 IO23PDB1V1 (io), D11 GBB0/IO27NDB1V1 (io), E9 IO20NDB1V0 (io), E11 GBB1/IO27PDB1V1 (io), F9 IO20PDB1V0 (io), F10 IO23NDB1V1 (io)
part C pins: D13 GBA2/IO30PDB2V0 (io), D14 IO30NDB2V0 (io), D15 GBB2/IO31PDB2V0 (io), D16 IO31NDB2V0 (io), E12 IO33PSB2V0 (io), E14 IO32NDB2V0 (io), E15 GBC2/IO32PDB2V0 (io), F11 IO36NDB2V0 (io), F12 IO36PDB2V0 (io), F13 IO39NDB2V0 (io), F14 GCA2/IO39PDB2V0 (io), F15 GCB2/IO40PDB2V0 (io), F16 IO40NDB2V0 (io), G11 GCC0/IO43NDB2V0 (io), G13 GCC1/IO43PDB2V0 (io), G14 IO41NPB2V0 (io), G16 GCC2/IO41PPB2V0 (io), H11 IO47NDB2V0 (io), H12 IO47PDB2V0 (io), H13 GCA1/IO45PDB2V0 (io), H14 GCA0/IO45NDB2V0 (io), H15 GCB0/IO44NDB2V0 (io), H16 GCB1/IO44PDB2V0 (io), J11 IO56NPB2V0 (io), J12 GDB0/IO53NPB2V0 (io), J13 GDA1/IO54PDB2V0 (io), J14 GDC1/IO52PPB2V0 (io), J15 IO51NSB2V0 (io), J16 GDC0/IO52NPB2V0 (io), K11 GDC2/IO57PPB2V0 (io), K13 GDA0/IO54NDB2V0 (io), K14 GDA2/IO55PPB2V0 (io), K16 GDB1/IO53PPB2V0 (io), L14 IO57NPB2V0 (io), L15 GDB2/IO56PPB2V0 (io), L16 IO55NPB2V0 (io)
part D pins: D1 IO84NDB4V0 (io), D2 GAB2/IO84PDB4V0 (io), D3 IO85NDB4V0 (io), D4 GAA2/IO85PDB4V0 (io), E2 IO81NDB4V0 (io), E3 IO81PDB4V0 (io), E5 IO83NPB4V0 (io), F1 IO79NDB4V0 (io), F2 IO79PDB4V0 (io), F3 IO76NDB4V0 (io), F4 IO76PDB4V0 (io), F5 IO82PSB4V0 (io), F6 GAC2/IO83PPB4V0 (io), G1 IO74NPB4V0 (io), G3 GFB2/IO74PPB4V0 (io), G4 GFA2/IO75PDB4V0 (io), G6 IO75NDB4V0 (io), H1 GFC2/IO73PDB4V0 (io), H2 IO73NDB4V0 (io), J1 GFA0/IO70NDB4V0 (io), J2 GFA1/IO70PDB4V0 (io), J3 GFB0/IO71NDB4V0 (io), J4 GFB1/IO71PDB4V0 (io), J5 GFC0/IO72NDB4V0 (io), J6 GFC1/IO72PDB4V0 (io), K1 IO67NPB4V0 (io), K3 IO67PPB4V0 (io), K4 IO65PDB4V0 (io), K6 IO65NDB4V0 (io), L1 GEC1/IO63PDB4V0 (io), L2 GEC0/IO63NDB4V0 (io), L3 GEB1/IO62PDB4V0 (io), L4 GEB0/IO62NDB4V0 (io), L5 IO60NDB4V0 (io), L6 GEC2/IO60PDB4V0 (io), M2 GEA1/IO61PDB4V0 (io), M3 GEA0/IO61NDB4V0 (io), M5 IO58NPB4V0 (io), N1 GEB2/IO59PDB4V0 (io), N2 IO59NDB4V0 (io), N3 GEA2/IO58PPB4V0 (io)
part E pins: L8 AC2 (in) "Analog current pad 2.", L9 AV4 (in) "Analog voltage pad 4.", L10 AC5 (in) "Analog current pad 5.", M6 AV0 (in) "Analog voltage pad 0.", M7 AC1 (in) "Analog current pad 1.", M8 AG3 (out) "Analog gate driver pad 3.", M9 AC4 (in) "Analog current pad 4.", M10 AC6 (in) "Analog current pad 6.", M11 AG7 (out) "Analog gate driver pad 7.", N6 AG0 (out) "Analog gate driver pad 0.", N7 AC3 (in) "Analog current pad 3.", N8 AG5 (out) "Analog gate driver pad 5.", N9 AV5 (in) "Analog voltage pad 5.", N10 AG6 (out) "Analog gate driver pad 6.", N11 AC8 (in) "Analog current pad 8.", P4 AC0 (in) "Analog current pad 0.", P5 AG1 (out) "Analog gate driver pad 1.", P6 AV1 (in) "Analog voltage pad 1.", P7 AG2 (out) "Analog gate driver pad 2.", P8 AG4 (out) "Analog gate driver pad 4.", P10 AC7 (in) "Analog current pad 7.", P11 AV8 (in) "Analog voltage pad 8.", P12 AG8 (out) "Analog gate driver pad 8.", P13 AV9 (in) "Analog voltage pad 9.", R3 AT1 (in) "Analog temperature pad 1.", R4 AT0 (in) "Analog temperature pad 0.", R5 AV2 (in) "Analog voltage pad 2.", R6 AT2 (in) "Analog temperature pad 2.", R7 AV3 (in) "Analog voltage pad 3.", R8 AT5 (in) "Analog temperature pad 5.", R9 AV6 (in) "Analog voltage pad 6.", R10 AT7 (in) "Analog temperature pad 7.", R11 AV7 (in) "Analog voltage pad 7.", R12 AT9 (in) "Analog temperature pad 9.", R13 AG9 (out) "Analog gate driver pad 9.", R14 AC9 (in) "Analog current pad 9.", T4 ATRTN0 "Temperature monitor return 0.", T5 AT3 (in) "Analog temperature pad 3.", T6 ATRTN1 "Temperature monitor return 1.", T7 AT4 (in) "Analog temperature pad 4.", T8 ATRTN2 "Temperature monitor return 2.", T9 AT6 (in) "Analog temperature pad 6.", T10 ATRTN3 "Temperature monitor return 3.", T11 AT8 (in) "Analog temperature pad 8.", T12 ATRTN4 "Temperature monitor return 4."
part F pins: L12 TDO (out), M14 TMS (in), M15 ~{TRST} (in), N15 TCK (in), N16 TDI (in)
part G pins: H3 XTAL2 "Input to crystal oscillator - If using external RC network or clock input, XTAL1 should be used and XTAL2 left unconnected.", H4 XTAL1 "Input to crystal oscillator - If using external RC network or clock input, XTAL1 should be used and XTAL2 left unconnected.", L11 PTEM (in) "PASS TRANSISTOR EMITTER - The feedback input of the voltage regulator.", P15 PTBASE (out) "PASS TRANSISTOR BASE - The control signal of the voltage regulator.", R2 PCAP "POSITIVE CAPACITOR - where the positive terminal of the charge pump capacitor is connected.", R15 PUB "Power up bar - for the external momentary switch which turns on the 1.5V regulator.", T2 NCAP "NEGATIVE CAPACITOR - where the negative terminal of the charge pump capacitor is connected."
part H pins: A2 VCCIB0 (power), A15 VCCIB1 (power), B2 VCCPLA (power), B7 VCCIB0 (power), B10 VCCIB1 (power), B15 VCCPLB (power), C1 VCCIB4 (power), C3 VCCIB4 (power) "Quiet supply voltage to the input buffers of bank 4.", C4 VCCIB0 (power) "Quiet supply voltage to the input buffers of bank 0.", C5 VCCIB0 (power), C12 VCCIB1 (power), C14 VCCIB2 (power) "Quiet supply voltage to the input buffers of bank 2.", C16 VCCIB2 (power), D12 VCCIB1 (power) "Quiet supply voltage to the input buffers of bank 1.", E4 VCCIB4 (power), E13 VCCIB2 (power), G2 VCCIB4 (power), G8 VCC (power), G10 VCC (power), G15 VCCIB2 (power), H6 VCCOSC (power), H7 VCC (power), H9 VCC (power), J8 VCC (power), J10 VCC (power), K2 VCCIB4 (power), K7 VCC (power), K9 VCC (power), K15 VCCIB2 (power), L13 VJTAG (power), M4 VCCIB4 (power), M12 VPUMP (power), M13 VCCIB2 (power), N4 VCC33PMP (power) "3.3V clean analog power supply input for use by the analog charge pump.", N5 VCC15A (power), N13 VCC33A (power), N14 VCCNVM (power) "1.5V power supply used by the Fusion device's Flash memory block module(s).", P1 VCCNVM (power) "1.5V power supply used by the Fusion device's Flash memory block module(s).", R1 VCCIB4 (power), R16 VCCIB2 (power), T3 VCC33N (power) "-3.3V output from the voltage converter. A 2.2µF capacitor must be connected from this pin to ground.", T14 VCC33A (power) "Analog power pin for the analog power supply low pass filter. An external 1µF capacitor should be connected between this pin and ground.", T15 VAREF (power) "Analog reference voltage to be used by analog to digital converter."
part I pins: A1 GND (power), A5 GND (power), A12 GND (power), A16 GND (power), B1 VCOMPLA (power), B16 VCOMPLB (power), C2 GND (power), C15 GND (power), E1 GND (power), E7 GND (power), E10 GND (power), E16 GND (power), G5 GND (power), G7 GND (power), G9 GND (power), G12 GND (power), H5 GNDOSC (power) "Oscillator ground.", H8 GND (power), H10 GND (power), J7 GND (power), J9 GND (power), K5 GND (power), K8 GND (power), K10 GND (power), K12 GND (power), L7 GNDA (power), M1 GND (power), M16 GND (power), N12 GNDA (power), P2 GNDNVM (power) "Flash memory ground.", P3 GNDA (power), P9 GNDA (power), P14 ADCGNDREF (power) "Analog ground reference used by the ADC.", P16 GNDNVM (power) "Flash memory ground.", T1 GND (power), T13 GNDA (power), T16 GND (power)
part A text: BANK 0
part B text: BANK 1
part C text: BANK 2
part D text: BANK 4

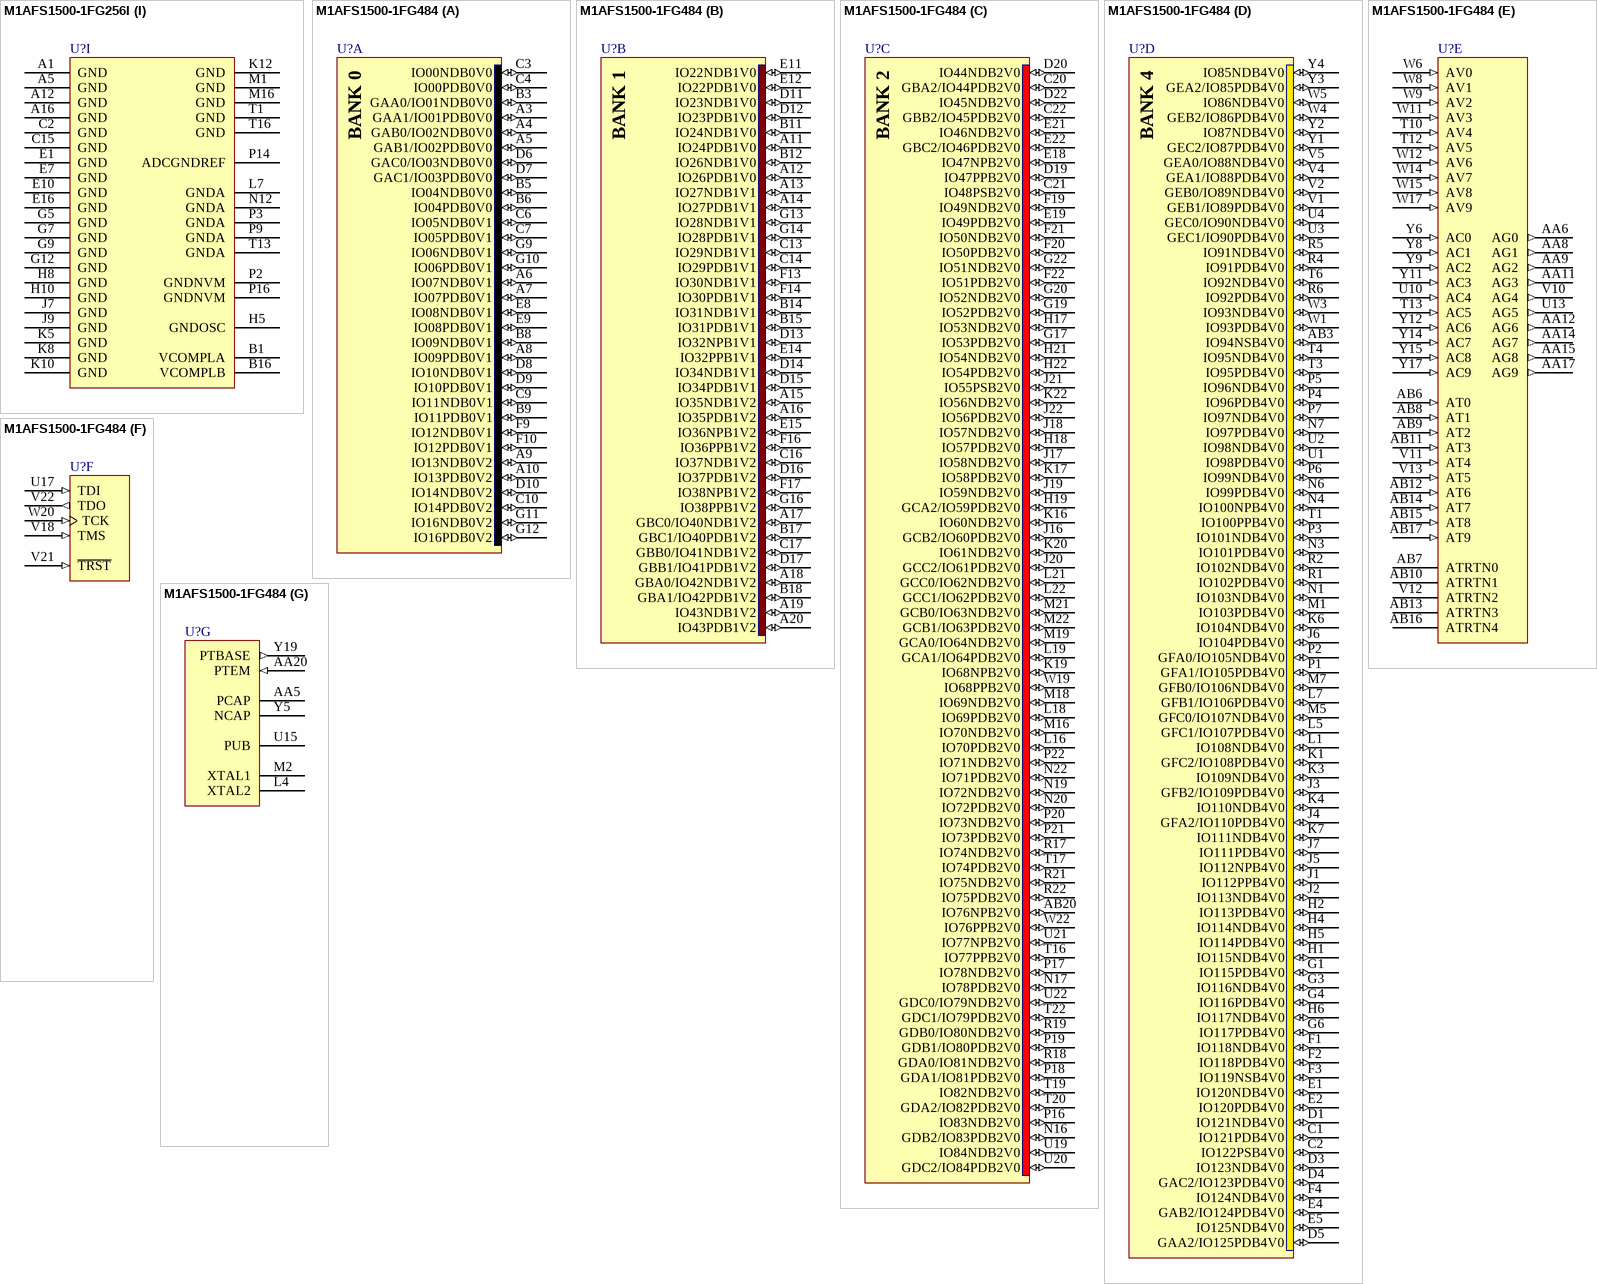
[diagram p207: symbols M1AFS1500-1FG256I to M1AFS1500-1FG484]

## M1AFS1500-1FG256I
designator U?
ARM-Enabled 3.3V Fusion Mixed Signal Flash FPGA, 1.5 Million System Gates, 256-Pin FBGA, 15% Faster Speed Grade, Industrial Grade; DatasheetVersion: v2.0, Jul-2008; PackageVersion: rev39, Aug-2010; PackageReference: FG256; PackageDescription: 256-Ball Fine Pitch Plastic Ball Grid Array 1.00 mm Pitch (FG256); Code_JEDEC: MO-192-DAF-1; ComponentLink1Description: Manufacturer URL; ComponentLink1URL: http://www.actel.com/; ComponentLink2Description: Fusion Datasheet; ComponentLink2URL: http://www.actel.com/documents/Fusion_DS.pdf; ComponentLink3Description: Package Mechanical Drawings; ComponentLink3URL: http://www.actel.com/documents/PckgMechDrwngs.pdf; ComponentLink4Description: Fusion Documents; ComponentLink4URL: http://www.actel.com/products/fusion/docs.aspx
footprint FG256 (BGA, 256-Leads, Body 17x17mm, Pitch 1mm)
part A pins: A3 GAA0/IO01NDB0V0 (io), A4 GAA1/IO01PDB0V0 (io), A6 IO10PDB0V1 (io), A7 IO12PDB0V1 (io), A8 IO12NDB0V1 (io), B3 IO00NDB0V0 (io), B4 IO00PDB0V0 (io), B5 GAB1/IO02PPB0V0 (io), B6 IO10NDB0V1 (io), C6 GAC1/IO03PDB0V0 (io), C7 IO06NDB0V0 (io), D5 GAB0/IO02NPB0V0 (io), D6 GAC0/IO03NDB0V0 (io), D7 IO06PDB0V0 (io), D8 IO14NDB0V1 (io), D9 IO14PDB0V1 (io), E6 IO04NPB0V0 (io), E8 IO08PDB0V1 (io), F7 IO04PPB0V0 (io), F8 IO08NDB0V1 (io)
part B pins: A9 IO22NDB1V0 (io), A10 IO22PDB1V0 (io), A11 IO24NDB1V1 (io), A13 GBA0/IO28NDB1V1 (io), A14 IO29NDB1V1 (io), B8 IO18NDB1V0 (io), B9 IO18PDB1V0 (io), B11 IO24PDB1V1 (io), B12 GBC0/IO26NPB1V1 (io), B13 GBA1/IO28PDB1V1 (io), B14 IO29PDB1V1 (io), C8 IO16PDB1V0 (io), C9 IO16NDB1V0 (io), C10 IO25NDB1V1 (io), C11 IO25PDB1V1 (io), C13 GBC1/IO26PPB1V1 (io), D10 IO23PDB1V1 (io), D11 GBB0/IO27NDB1V1 (io), E9 IO20NDB1V0 (io), E11 GBB1/IO27PDB1V1 (io), F9 IO20PDB1V0 (io), F10 IO23NDB1V1 (io)
part C pins: D13 GBA2/IO30PDB2V0 (io), D14 IO30NDB2V0 (io), D15 GBB2/IO31PDB2V0 (io), D16 IO31NDB2V0 (io), E12 IO33PSB2V0 (io), E14 IO32NDB2V0 (io), E15 GBC2/IO32PDB2V0 (io), F11 IO36NDB2V0 (io), F12 IO36PDB2V0 (io), F13 IO39NDB2V0 (io), F14 GCA2/IO39PDB2V0 (io), F15 GCB2/IO40PDB2V0 (io), F16 IO40NDB2V0 (io), G11 GCC0/IO43NDB2V0 (io), G13 GCC1/IO43PDB2V0 (io), G14 IO41NPB2V0 (io), G16 GCC2/IO41PPB2V0 (io), H11 IO47NDB2V0 (io), H12 IO47PDB2V0 (io), H13 GCA1/IO45PDB2V0 (io), H14 GCA0/IO45NDB2V0 (io), H15 GCB0/IO44NDB2V0 (io), H16 GCB1/IO44PDB2V0 (io), J11 IO56NPB2V0 (io), J12 GDB0/IO53NPB2V0 (io), J13 GDA1/IO54PDB2V0 (io), J14 GDC1/IO52PPB2V0 (io), J15 IO51NSB2V0 (io), J16 GDC0/IO52NPB2V0 (io), K11 GDC2/IO57PPB2V0 (io), K13 GDA0/IO54NDB2V0 (io), K14 GDA2/IO55PPB2V0 (io), K16 GDB1/IO53PPB2V0 (io), L14 IO57NPB2V0 (io), L15 GDB2/IO56PPB2V0 (io), L16 IO55NPB2V0 (io)
part D pins: D1 IO84NDB4V0 (io), D2 GAB2/IO84PDB4V0 (io), D3 IO85NDB4V0 (io), D4 GAA2/IO85PDB4V0 (io), E2 IO81NDB4V0 (io), E3 IO81PDB4V0 (io), E5 IO83NPB4V0 (io), F1 IO79NDB4V0 (io), F2 IO79PDB4V0 (io), F3 IO76NDB4V0 (io), F4 IO76PDB4V0 (io), F5 IO82PSB4V0 (io), F6 GAC2/IO83PPB4V0 (io), G1 IO74NPB4V0 (io), G3 GFB2/IO74PPB4V0 (io), G4 GFA2/IO75PDB4V0 (io), G6 IO75NDB4V0 (io), H1 GFC2/IO73PDB4V0 (io), H2 IO73NDB4V0 (io), J1 GFA0/IO70NDB4V0 (io), J2 GFA1/IO70PDB4V0 (io), J3 GFB0/IO71NDB4V0 (io), J4 GFB1/IO71PDB4V0 (io), J5 GFC0/IO72NDB4V0 (io), J6 GFC1/IO72PDB4V0 (io), K1 IO67NPB4V0 (io), K3 IO67PPB4V0 (io), K4 IO65PDB4V0 (io), K6 IO65NDB4V0 (io), L1 GEC1/IO63PDB4V0 (io), L2 GEC0/IO63NDB4V0 (io), L3 GEB1/IO62PDB4V0 (io), L4 GEB0/IO62NDB4V0 (io), L5 IO60NDB4V0 (io), L6 GEC2/IO60PDB4V0 (io), M2 GEA1/IO61PDB4V0 (io), M3 GEA0/IO61NDB4V0 (io), M5 IO58NPB4V0 (io), N1 GEB2/IO59PDB4V0 (io), N2 IO59NDB4V0 (io), N3 GEA2/IO58PPB4V0 (io)
part E pins: L8 AC2 (in) "Analog current pad 2.", L9 AV4 (in) "Analog voltage pad 4.", L10 AC5 (in) "Analog current pad 5.", M6 AV0 (in) "Analog voltage pad 0.", M7 AC1 (in) "Analog current pad 1.", M8 AG3 (out) "Analog gate driver pad 3.", M9 AC4 (in) "Analog current pad 4.", M10 AC6 (in) "Analog current pad 6.", M11 AG7 (out) "Analog gate driver pad 7.", N6 AG0 (out) "Analog gate driver pad 0.", N7 AC3 (in) "Analog current pad 3.", N8 AG5 (out) "Analog gate driver pad 5.", N9 AV5 (in) "Analog voltage pad 5.", N10 AG6 (out) "Analog gate driver pad 6.", N11 AC8 (in) "Analog current pad 8.", P4 AC0 (in) "Analog current pad 0.", P5 AG1 (out) "Analog gate driver pad 1.", P6 AV1 (in) "Analog voltage pad 1.", P7 AG2 (out) "Analog gate driver pad 2.", P8 AG4 (out) "Analog gate driver pad 4.", P10 AC7 (in) "Analog current pad 7.", P11 AV8 (in) "Analog voltage pad 8.", P12 AG8 (out) "Analog gate driver pad 8.", P13 AV9 (in) "Analog voltage pad 9.", R3 AT1 (in) "Analog temperature pad 1.", R4 AT0 (in) "Analog temperature pad 0.", R5 AV2 (in) "Analog voltage pad 2.", R6 AT2 (in) "Analog temperature pad 2.", R7 AV3 (in) "Analog voltage pad 3.", R8 AT5 (in) "Analog temperature pad 5.", R9 AV6 (in) "Analog voltage pad 6.", R10 AT7 (in) "Analog temperature pad 7.", R11 AV7 (in) "Analog voltage pad 7.", R12 AT9 (in) "Analog temperature pad 9.", R13 AG9 (out) "Analog gate driver pad 9.", R14 AC9 (in) "Analog current pad 9.", T4 ATRTN0 "Temperature monitor return 0.", T5 AT3 (in) "Analog temperature pad 3.", T6 ATRTN1 "Temperature monitor return 1.", T7 AT4 (in) "Analog temperature pad 4.", T8 ATRTN2 "Temperature monitor return 2.", T9 AT6 (in) "Analog temperature pad 6.", T10 ATRTN3 "Temperature monitor return 3.", T11 AT8 (in) "Analog temperature pad 8.", T12 ATRTN4 "Temperature monitor return 4."
part F pins: L12 TDO (out), M14 TMS (in), M15 ~{TRST} (in), N15 TCK (in), N16 TDI (in)
part G pins: H3 XTAL2 "Input to crystal oscillator - If using external RC network or clock input, XTAL1 should be used and XTAL2 left unconnected.", H4 XTAL1 "Input to crystal oscillator - If using external RC network or clock input, XTAL1 should be used and XTAL2 left unconnected.", L11 PTEM (in) "PASS TRANSISTOR EMITTER - The feedback input of the voltage regulator.", P15 PTBASE (out) "PASS TRANSISTOR BASE - The control signal of the voltage regulator.", R2 PCAP "POSITIVE CAPACITOR - where the positive terminal of the charge pump capacitor is connected.", R15 PUB "Power up bar - for the external momentary switch which turns on the 1.5V regulator.", T2 NCAP "NEGATIVE CAPACITOR - where the negative terminal of the charge pump capacitor is connected."
part H pins: A2 VCCIB0 (power), A15 VCCIB1 (power), B2 VCCPLA (power), B7 VCCIB0 (power), B10 VCCIB1 (power), B15 VCCPLB (power), C1 VCCIB4 (power), C3 VCCIB4 (power) "Quiet supply voltage to the input buffers of bank 4.", C4 VCCIB0 (power) "Quiet supply voltage to the input buffers of bank 0.", C5 VCCIB0 (power), C12 VCCIB1 (power), C14 VCCIB2 (power) "Quiet supply voltage to the input buffers of bank 2.", C16 VCCIB2 (power), D12 VCCIB1 (power) "Quiet supply voltage to the input buffers of bank 1.", E4 VCCIB4 (power), E13 VCCIB2 (power), G2 VCCIB4 (power), G8 VCC (power), G10 VCC (power), G15 VCCIB2 (power), H6 VCCOSC (power), H7 VCC (power), H9 VCC (power), J8 VCC (power), J10 VCC (power), K2 VCCIB4 (power), K7 VCC (power), K9 VCC (power), K15 VCCIB2 (power), L13 VJTAG (power), M4 VCCIB4 (power), M12 VPUMP (power), M13 VCCIB2 (power), N4 VCC33PMP (power) "3.3V clean analog power supply input for use by the analog charge pump.", N5 VCC15A (power), N13 VCC33A (power), N14 VCCNVM (power) "1.5V power supply used by the Fusion device's Flash memory block module(s).", P1 VCCNVM (power) "1.5V power supply used by the Fusion device's Flash memory block module(s).", R1 VCCIB4 (power), R16 VCCIB2 (power), T3 VCC33N (power) "-3.3V output from the voltage converter. A 2.2µF capacitor must be connected from this pin to ground.", T14 VCC33A (power) "Analog power pin for the analog power supply low pass filter. An external 1µF capacitor should be connected between this pin and ground.", T15 VAREF (power) "Analog reference voltage to be used by analog to digital converter."
part I pins: A1 GND (power), A5 GND (power), A12 GND (power), A16 GND (power), B1 VCOMPLA (power), B16 VCOMPLB (power), C2 GND (power), C15 GND (power), E1 GND (power), E7 GND (power), E10 GND (power), E16 GND (power), G5 GND (power), G7 GND (power), G9 GND (power), G12 GND (power), H5 GNDOSC (power) "Oscillator ground.", H8 GND (power), H10 GND (power), J7 GND (power), J9 GND (power), K5 GND (power), K8 GND (power), K10 GND (power), K12 GND (power), L7 GNDA (power), M1 GND (power), M16 GND (power), N12 GNDA (power), P2 GNDNVM (power) "Flash memory ground.", P3 GNDA (power), P9 GNDA (power), P14 ADCGNDREF (power) "Analog ground reference used by the ADC.", P16 GNDNVM (power) "Flash memory ground.", T1 GND (power), T13 GNDA (power), T16 GND (power)
part A text: BANK 0
part B text: BANK 1
part C text: BANK 2
part D text: BANK 4

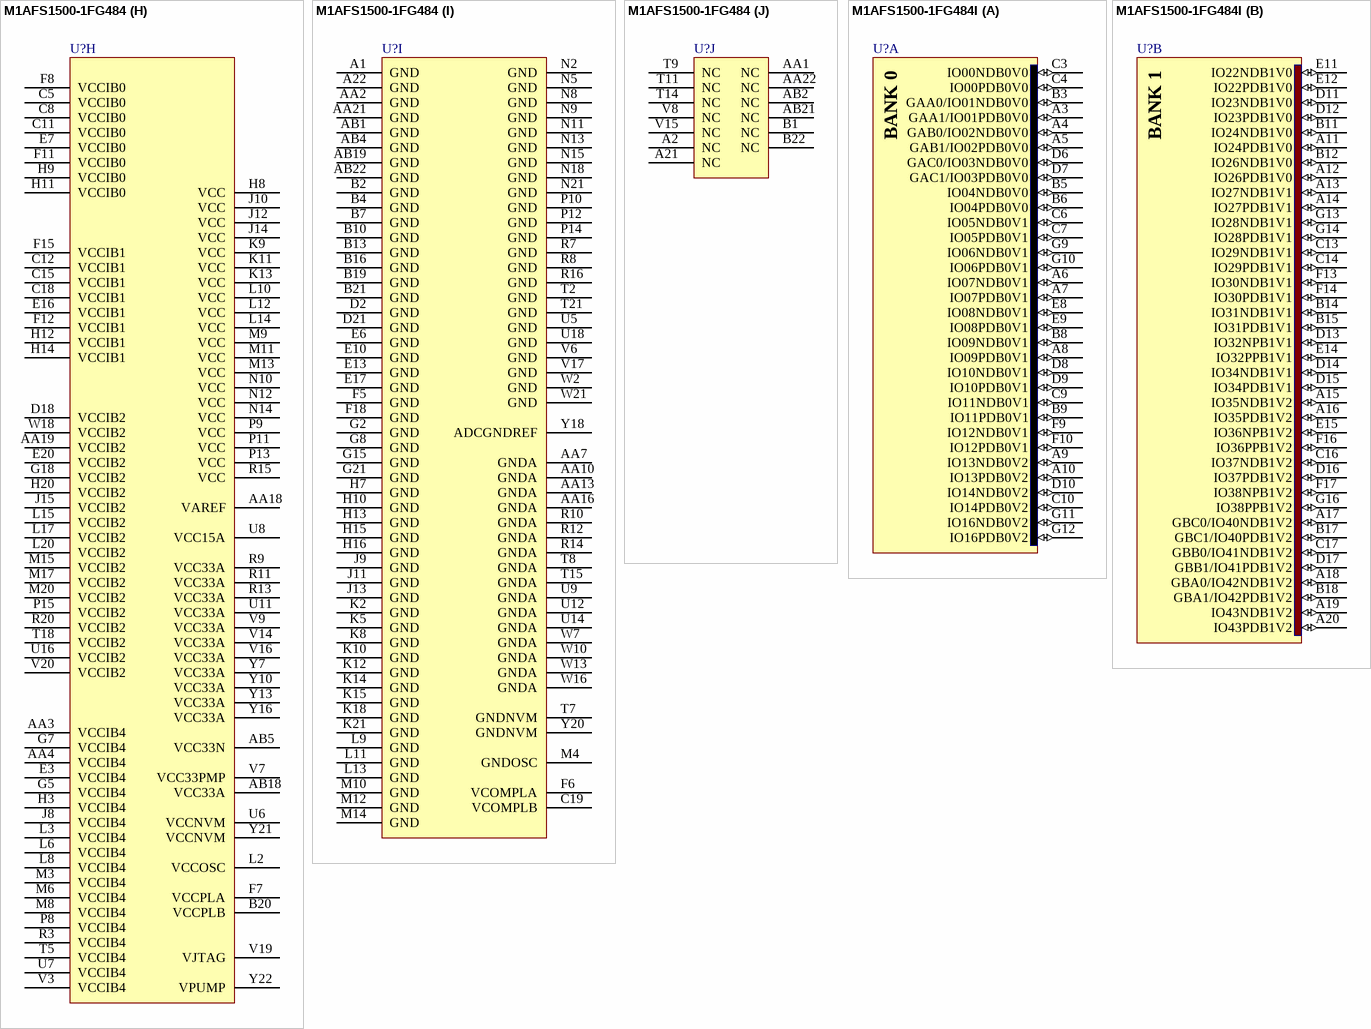
[diagram p208: symbols M1AFS1500-1FG484 to M1AFS1500-1FG484I]